# EAGLE library part IC_LTC4069 (library akita)
LiPo charger
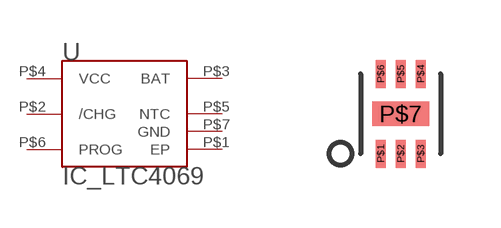
[diagram p131: symbol with the pads of DFN6; footprint DFN6]

Designator prefix U

## IC_LTC4069DC  [DFN6]
P$1  EP
P$2  /CHG
P$3  BAT
P$4  VCC
P$5  NTC
P$6  PROG
P$7  GND

## Footprint DFN6 (pad centres in mm)
smd 0.25 x 0.7: P$1 -0.5,-1; P$2 0,-1; P$3 0.5,-1; P$4 0.5,1; P$5 0,1; P$6 -0.5,1
smd 1.42 x 0.61: P$7 0,0